# EAGLE library part PE-68517L (library pulse-pe-68517-ethernet-trafo)
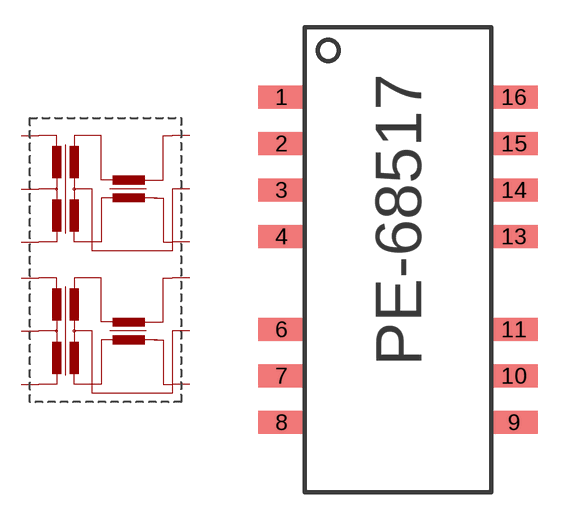
[diagram p1: symbol with the pads of PE-68517; footprint PE-68517]

Designator prefix -

## PE-68517L  [PE-68517]
1  TD+
2  TD-
3  TCT
6  TXCT
7  TX-
8  TX+
9  RX+
10  RX-
11  RXCT
14  RCT
15  RD-
16  RD+

## Footprint PE-68517 (pad centres in mm)
smd 2.54 x 1.27: 1 -7.62,7.62; 2 -7.62,5.08; 3 -7.62,2.54; 4 -7.62,0; 6 -7.62,-5.08; 7 -7.62,-7.62; 8 -7.62,-10.16; 9 5.08,-10.16; 10 5.08,-7.62; 11 5.08,-5.08; 13 5.08,0; 14 5.08,2.54; 15 5.08,5.08; 16 5.08,7.62